# Altium footprint library can_2_0.PcbLib: 1 footprints
Each footprint in its own frame and in the unit in brackets; x right, y up, seen from the top. Pads: shape width x height; smd on the part's side, far side on the other; paste and mask are expansions set on the pad; w line width, h text height; cw(c..) or ccw(c..) is an arc to the next point about the centre after c.
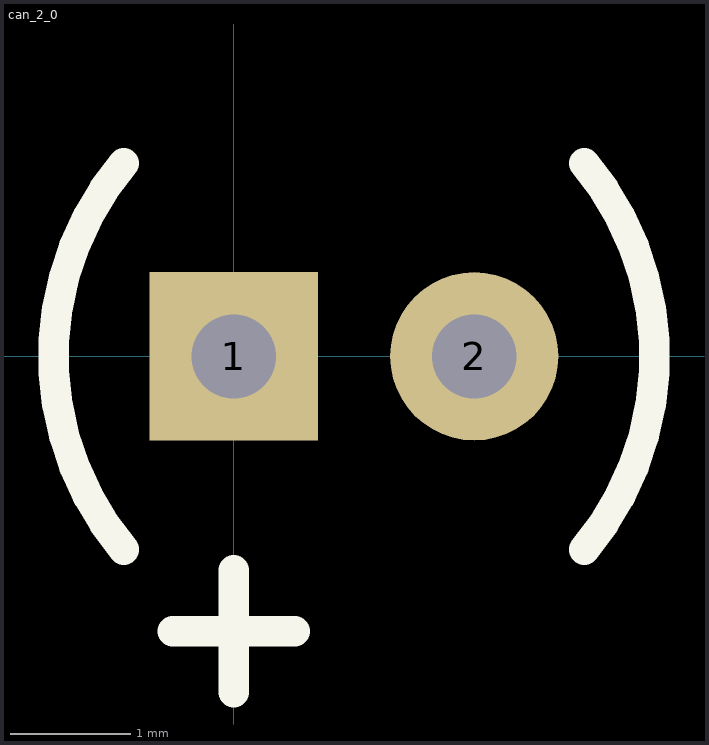
[diagram p0: the footprint, top view; thin cyan lines are the x and y axes]

## can_2_0 [mm] "2 Leaded Al Cap, 2mm spacing, 5mm diameter"
height 20
pads (2):
  rect 1.4x1.4 hole 0.7: 1(0,0)
  round 1.4 hole 0.7: 2(2,0)
Top Overlay:
  lines w0.254: -0.915,-1.607 cw(c1,0) -0.915,1.607 ; -0.508,-2.286 0.508,-2.286 ; 0,-2.794 0,-1.778 ; 2.915,-1.607 ccw(c1,0) 2.915,1.607